# Altium schematic symbol library SCH - MCU - SI LABS - SI LABS EFM32PG22C200F256IM40 40-PIN QFN 5X5.SchLib: 1 symbol
Pins are listed as number, name and electrical type; pins without a type are passive.

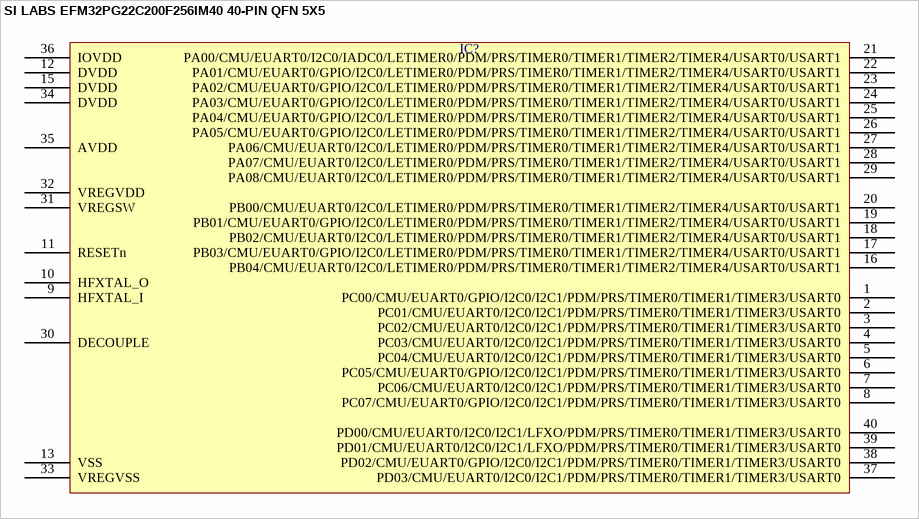
[diagram p0: symbol SI LABS EFM32PG22C200F256IM40 40-PIN QFN 5X5]

## SI LABS EFM32PG22C200F256IM40 40-PIN QFN 5X5
designator IC?  (value not drawn)
pins: 1 PC00/CMU/EUART0/GPIO/I2C0/I2C1/PDM/PRS/TIMER0/TIMER1/TIMER3/USART0, 2 PC01/CMU/EUART0/I2C0/I2C1/PDM/PRS/TIMER0/TIMER1/TIMER3/USART0, 3 PC02/CMU/EUART0/I2C0/I2C1/PDM/PRS/TIMER0/TIMER1/TIMER3/USART0, 4 PC03/CMU/EUART0/I2C0/I2C1/PDM/PRS/TIMER0/TIMER1/TIMER3/USART0, 5 PC04/CMU/EUART0/I2C0/I2C1/PDM/PRS/TIMER0/TIMER1/TIMER3/USART0, 6 PC05/CMU/EUART0/GPIO/I2C0/I2C1/PDM/PRS/TIMER0/TIMER1/TIMER3/USART0, 7 PC06/CMU/EUART0/I2C0/I2C1/PDM/PRS/TIMER0/TIMER1/TIMER3/USART0, 8 PC07/CMU/EUART0/GPIO/I2C0/I2C1/PDM/PRS/TIMER0/TIMER1/TIMER3/USART0, 9 HFXTAL_I, 10 HFXTAL_O, 11 RESETn, 12 DVDD, 13 VSS, 15 DVDD, 16 PB04/CMU/EUART0/I2C0/LETIMER0/PDM/PRS/TIMER0/TIMER1/TIMER2/TIMER4/USART0/USART1, 17 PB03/CMU/EUART0/GPIO/I2C0/LETIMER0/PDM/PRS/TIMER0/TIMER1/TIMER2/TIMER4/USART0/USART1, 18 PB02/CMU/EUART0/I2C0/LETIMER0/PDM/PRS/TIMER0/TIMER1/TIMER2/TIMER4/USART0/USART1, 19 PB01/CMU/EUART0/GPIO/I2C0/LETIMER0/PDM/PRS/TIMER0/TIMER1/TIMER2/TIMER4/USART0/USART1, 20 PB00/CMU/EUART0/I2C0/LETIMER0/PDM/PRS/TIMER0/TIMER1/TIMER2/TIMER4/USART0/USART1, 21 PA00/CMU/EUART0/I2C0/IADC0/LETIMER0/PDM/PRS/TIMER0/TIMER1/TIMER2/TIMER4/USART0/USART1, 22 PA01/CMU/EUART0/GPIO/I2C0/LETIMER0/PDM/PRS/TIMER0/TIMER1/TIMER2/TIMER4/USART0/USART1, 23 PA02/CMU/EUART0/GPIO/I2C0/LETIMER0/PDM/PRS/TIMER0/TIMER1/TIMER2/TIMER4/USART0/USART1, 24 PA03/CMU/EUART0/GPIO/I2C0/LETIMER0/PDM/PRS/TIMER0/TIMER1/TIMER2/TIMER4/USART0/USART1, 25 PA04/CMU/EUART0/GPIO/I2C0/LETIMER0/PDM/PRS/TIMER0/TIMER1/TIMER2/TIMER4/USART0/USART1, 26 PA05/CMU/EUART0/GPIO/I2C0/LETIMER0/PDM/PRS/TIMER0/TIMER1/TIMER2/TIMER4/USART0/USART1, 27 PA06/CMU/EUART0/I2C0/LETIMER0/PDM/PRS/TIMER0/TIMER1/TIMER2/TIMER4/USART0/USART1, 28 PA07/CMU/EUART0/I2C0/LETIMER0/PDM/PRS/TIMER0/TIMER1/TIMER2/TIMER4/USART0/USART1, 29 PA08/CMU/EUART0/I2C0/LETIMER0/PDM/PRS/TIMER0/TIMER1/TIMER2/TIMER4/USART0/USART1, 30 DECOUPLE, 31 VREGSW, 32 VREGVDD, 33 VREGVSS, 34 DVDD, 35 AVDD, 36 IOVDD, 37 PD03/CMU/EUART0/I2C0/I2C1/PDM/PRS/TIMER0/TIMER1/TIMER3/USART0, 38 PD02/CMU/EUART0/GPIO/I2C0/I2C1/PDM/PRS/TIMER0/TIMER1/TIMER3/USART0, 39 PD01/CMU/EUART0/I2C0/I2C1/LFXO/PDM/PRS/TIMER0/TIMER1/TIMER3/USART0, 40 PD00/CMU/EUART0/I2C0/I2C1/LFXO/PDM/PRS/TIMER0/TIMER1/TIMER3/USART0